# Altium schematic symbol library RK3308SCH.SCHLIB: 31 symbols
Pins are listed as number, name and electrical type; pins without a type are passive.

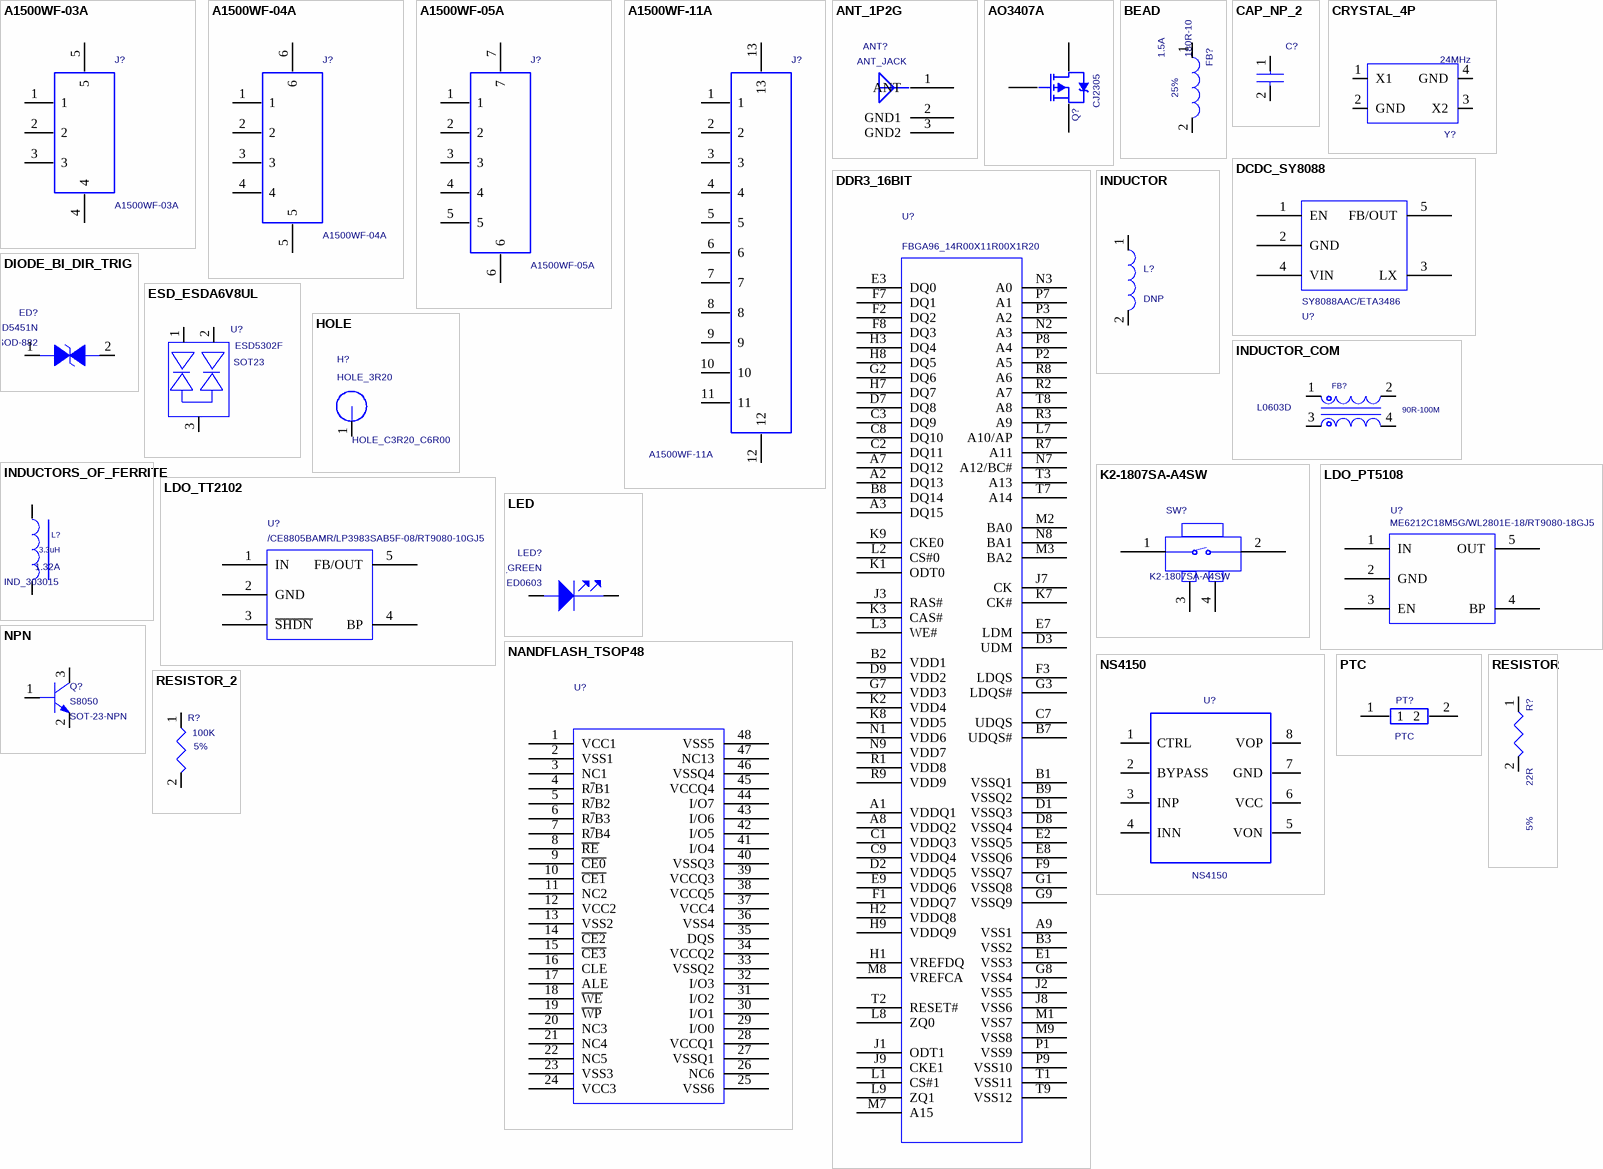
[diagram p0: symbols A1500WF-03A to RESISTOR_2]

## A1500WF-03A
designator J?
ZH1.5卧贴针座3PIN; Manufacturer_PN: HZ1515103N5200; PCB DECAL: ZH1.5-3P; Number: 1
footprint ZH1.5-3P
pins: 1, 2, 3, 4, 5

## A1500WF-04A
designator J?
ZH1.5卧贴针座4PIN; Manufacturer_PN: HZ1515104N5200; Number: 1; PCB DECAL: ZH1.5-4P
footprint ZH1.5-4P
pins: 1, 2, 3, 4, 5, 6

## A1500WF-05A
designator J?
ZH1.5卧贴针座5PIN; Manufacturer_PN: HZ1515105N5200; Manufacturer: 浩智创; PCB DECAL: ZH1.5-5P; Number: 1
footprint ZH1.5-5P
pins: 1, 2, 3, 4, 5, 6, 7

## A1500WF-11A
designator J?
ZH1.5卧贴针座11PIN; Manufacturer_PN: HZ1515111N5200; Manufacturer: 浩智创; PCB DECAL: ZH1.5-11P; Number: 1
footprint ZH1.5-11P
pins: 1, 2, 3, 4, 5, 6, 7, 8, 9, 10, 11, 12, 13

## ANT_1P2G
designator ANT?  PCB DECAL: ANT_JACK  (hidden comment: ANT_1P2G)
焊接式WIFI天线座，单频; Manufacturer_PN: KH-IPEX-K501-29; Part_Type: ANT; Created_by: JJJ; Priority: A; Source_Path: Z:\RK_STANDARD_LIBRARY\CADENCE_CIS\RK_DISCRETE.OLB; Value: ANT_JACK; Number: 1; RK_PN: ANT_JACK
footprint ANT_JACK
pins: 1 ANT, 2 GND1, 3 GND2

## AO3407A
designator Q?  value CJ2305
CJ2305; number: 1; PCB DECAL: SOT23; Comment_1: AO3407A; Manufacturer_PN: CJ2305
footprint SOT23
pins: 1 G, 2 S, 3 D

## BEAD
designator FB?  value 180R-100M  Tolerance: 25%  Irms: 1.5A  (hidden comment: BEAD)
Ferrite Bead,180R-100M,0.25,L0603; Manufacturer: Murata; RK_PN: BLM18PG181SN1; Priority: A; DC_Resistor: 0.09ohm; Created_by: YTL; Source_Path: Z:\RK_STANDARD_LIBRARY\CADENCE_CIS\RK_DISCRETE.OLB; PCB DECAL: L0603; Part_Type: BEAD; Manufacturer_PN: BLM18PG181SN1
footprint L0603
pins: 1, 2

## CAP_NP_2
designator C?  (value not drawn)
cap,100.00nF,+/-10%,16V,X5R,C0402; Manufacturer: TDK; RK_PN: C1005X5R1C104K050BA; Priority: A; Tolerance: 10%; Created_by: JJJ; Source_Path: Z:\RK_STANDARD_LIBRARY\CADENCE_CIS\RK_DISCRETE.OLB; Number: 1; Part_Type: C0402; Manufacturer_PN: C1005X5R1C104K050BA
footprint C0402
pins: 1, 2

## CRYSTAL_4P
designator Y?  value 24MHz  (hidden comment: CRYSTAL_4P)
无源晶振，24M，3225,±10ppm，12pF，Hosonic; Manufacturer: Hosonic(鸿星电子); PCB DECAL: CRY4_3R20X2R50X0R80; RK_PN: E3SB24.0000F12E11; Priority: A; Created_by: JJJ; Source_Path: Z:\RK_STANDARD_LIBRARY\CADENCE_CIS\RK_DISCRETE.OLB; Number: 1; Part_Type: CRYSTAL; Manufacturer_PN: E3SB24.0000F12E11
footprint CRY4_3R20X2R50X0R80
pins: 1 X1, 2 GND (power), 3 X2, 4 GND (power)

## DCDC_SY8088
designator U?  value SY8088AAC/ETA3486  (hidden comment: DCDC_SY8088)
SY8088AAC; Part_Type: DCDC; Manufacturer: Silergy(矽力杰）; PCB DECAL: SOT_23_5; Created_by: JJJ; Priority: A; Source_Path: Z:\RK_STANDARD_LIBRARY\CADENCE_CIS\RK_IC.OLB; Number: 1; Manufacturer_PN: SY8088AAC; RK_PN: SY8088AAC
footprint SOT_23_5
pins: 1 EN, 2 GND, 3 LX, 4 VIN, 5 FB/OUT

## DDR3_16BIT
designator U?  PCB DECAL: FBGA96_14R00X11R00X1R20  (hidden comment: DDR3_16BIT)
2Gb; Part_Type: DRAM; Manufacturer: ESMT; Manufacturer_PN: M15T2G16128A-DEBG2L; RK_PN: DDR3; Priority: A; Created_by: JJJ; Source_Path: Z:\RK_STANDARD_LIBRARY\CADENCE_CIS\RK_IC.OLB; Number: 1
footprint FBGA96_14R00X11R00X1R20
pins: A1 VDDQ1, A2 DQ13, A3 DQ15, A7 DQ12, A8 VDDQ2, A9 VSS1, B1 VSSQ1, B2 VDD1, B3 VSS2, B7 UDQS#, B8 DQ14, B9 VSSQ2, C1 VDDQ3, C2 DQ11, C3 DQ9, C7 UDQS, C8 DQ10, C9 VDDQ4, D1 VSSQ3, D2 VDDQ5, D3 UDM, D7 DQ8, D8 VSSQ4, D9 VDD2, E1 VSS3, E2 VSSQ5, E3 DQ0, E7 LDM, E8 VSSQ6, E9 VDDQ6, F1 VDDQ7, F2 DQ2, F3 LDQS, F7 DQ1, F8 DQ3, F9 VSSQ7, G1 VSSQ8, G2 DQ6, G3 LDQS#, G7 VDD3, G8 VSS4, G9 VSSQ9, H1 VREFDQ, H2 VDDQ8, H3 DQ4, H7 DQ7, H8 DQ5, H9 VDDQ9, J1 ODT1, J2 VSS5, J3 RAS#, J7 CK, J8 VSS6, J9 CKE1, K1 ODT0, K2 VDD4, K3 CAS#, K7 CK#, K8 VDD5, K9 CKE0, L1 CS#1, L2 CS#0, L3 WE#, L7 A10/AP, L8 ZQ0, L9 ZQ1, M1 VSS7, M2 BA0, M3 BA2, M7 A15, M8 VREFCA, M9 VSS8, N1 VDD6, N2 A3, N3 A0, N7 A12/BC#, N8 BA1, N9 VDD7, P1 VSS9, P2 A5, P3 A2, P7 A1, P8 A4, P9 VSS10, R1 VDD8, R2 A7, R3 A9, R7 A11, R8 A6, R9 VDD9, T1 VSS11, T2 RESET#, T3 A13, T7 A14, T8 A8, T9 VSS12

## DIODE_BI_DIR_TRIG
designator ED?  value ESD5451N  PCB DECAL: SOD-882  (hidden comment: DIODE_BI_DIR_TRIG)
1-Line, Bi-directional, Transient Voltage Suppressors.17.5pF.; Part_Type: ESD_TVS; Manufacturer: WillSemi(韦尔半导体); Priority: A; Created_by: JJJ; Source_Path: Z:\RK_STANDARD_LIBRARY\CADENCE_CIS\RK_DISCRETE.OLB; Number: 1; RK_PN: ESD5451N; Manufacturer_PN: ESD5451N
footprint SOD-882
pins: 1, 2

## ESD_ESDA6V8UL
designator U?  value ESD5302F  PCB DECAL: SOT23  (hidden comment: ESD_ESDA6V8UL)
2-Lines, Uni-directional,Ultra-low Capacitance.Transient Voltage Suppressors; Manufacturer: WillSemi(韦尔半导体); Part_Type: ESD_TVS; Created_by: JJJ; Priority: A; Source_Path: Z:\RK_STANDARD_LIBRARY\CADENCE_CIS\RK_IC.OLB; Geometry.Height: 43.31mil; Number: 1; Manufacturer_PN: ESD5302F; RK_PN: ESD5302F
footprint SOT23
pins: 1, 2, 3

## HOLE
designator H?  value HOLE_3R20  PCB DECAL: HOLE_C3R20_C6R00  (hidden comment: HOLE)
直径3.2mm螺丝孔,无铜柱; Created_by: YWQ; Priority: A; Source_Path: Z:\RK_STANDARD_LIBRARY\CADENCE_CIS\RK_DISCRETE.OLB; Number: 1; Option: DNP; Part_Type: HOLE; RK_PN: HOLE_3R20
footprint HOLE_C3R20_C6R00
pins: 1

## INDUCTOR
designator L?  value DNP  (hidden comment: INDUCTOR)
Did Not Place.; Part_Type: IND; PCB DECAL: L0402; Created_by: JJJ; Priority: A; RK_PN: DNPL0402; Source_Path: Z:\RK_STANDARD_LIBRARY\CADENCE_CIS\RK_DISCRETE.OLB; Number: 1; Option: DNP
footprint L0402
pins: 1, 2

## INDUCTOR_COM
designator FB?  value 90R-100M  PCB DECAL: L0603D  (hidden comment: INDUCTOR_COM)
Winding Type Common Mode Choke Coil; Part_Type: BEAD; Manufacturer: sunlord; RK_PN: SDCW2012-2-900TF; Priority: A; DC_Resistor: 0.35ohm; Tolerance: 25%; Irms: 330mA; Resonace_frequency: 90R@100M; Created_by: JJJ; Option: DNP; Source_Path: Z:\RK_STANDARD_LIBRARY\CADENCE_CIS\RK_DISCRETE.OLB; Manufacturer_PN: SDCW2012-2-900TF
footprint L0603D
pins: 1, 2, 3, 4

## INDUCTORS_OF_FERRITE
designator L?  value 3.3uH  PCB DECAL: IND_303015  Isat: 1.32A  (hidden comment: INDUCTORS_OF_FERRITE)
Power Inductor,3.3uH,0.2,IND_303015; Manufacturer_PN: SWPA3015S3R3MT; Manufacturer: sunlord; Part_Type: POWER_IND; Created_by: YTL; Resonace_frequency: 96M; Irms: 1.36A; Tolerance: 20%; DC_Resistor: 0.04ohm; Priority: A; Source_Path: Z:\RK_STANDARD_LIBRARY\CADENCE_CIS\RK_DISCRETE.OLB; RK_PN: SWPA3015S3R3MT
footprint IND_303015
pins: 1, 2

## K2-1807SA-A4SW
designator SW?
Part_Type: SWITCH; Manufacturer: HRO; Remark: 连接器; Number: 1; PCB DECAL: K2-1807SA; Manufacturer_PN: K2-1807SA-A4SW; Value: K2-1807SA-A4SW
footprint K2-1807SA
pins: 1, 2, 3, 4

## LDO_PT5108
designator U?  value ME6212C18M5G/WL2801E-18/RT9080-18GJ5  (hidden comment: LDO_PT5108)
High-PSRR 600mA LDO.Output1.8V.; Part_Type: LDO; Manufacturer: Powtech(华润矽威）; PCB DECAL: SOT_23_5; RK_PN: ME6212C18M5G; Priority: A; Created_by: JJJ; Source_Path: Z:\RK_STANDARD_LIBRARY\CADENCE_CIS\RK_IC.OLB; Number: 1; Manufacturer_PN: ME6212C18M5G
footprint SOT_23_5
pins: 1 IN, 2 GND, 3 EN, 4 BP, 5 OUT

## LDO_TT2102
designator U?  value /CE8805BAMR/LP3983SAB5F-08/RT9080-10GJ5  (hidden comment: LDO_TT2102)
LDO,1.5V to 6V input,600mA adj out; Manufacturer_PN: LM8805SF5-ADJ; PCB DECAL: SOT_23_5; Created_by: JJJ; Priority: A; RK_PN: TT2102; Source_Path: Z:\RK_STANDARD_LIBRARY\CADENCE_CIS\RK_IC.OLB; Number: 1; Part_Type: LDO
footprint SOT_23_5
pins: 1 IN, 2 GND, 3 ~{SHDN}, 4 BP, 5 FB/OUT

## LED
designator LED?  value LED_GREEN  PCB DECAL: LED0603  (hidden comment: LED)
贴片LED灯，0603，绿色; Created_by: JJJ; Priority: A; Source_Path: Z:\RK_STANDARD_LIBRARY\CADENCE_CIS\RK_DISCRETE.OLB; Part_Type: LED; RK_PN: LED_GREEN
footprint LED0603
pins: 1 ANODE, 2 CATHODE

## NANDFLASH_TSOP48
designator U?  (value not drawn)
1Gb; Manufacturer_PN: F59L1G81LB -25TG2M; Manufacturer: ESMT; Part_Type: NAND_FLASH; Created_by: JJJ; Priority: A; PCB DECAL: TSOP48_12X20; Source_Path: Z:\RK_STANDARD_LIBRARY\CADENCE_CIS\RK_IC.OLB; Number: 1; RK_PN: NAND_FLASH
footprint TSOP48_12X20
pins: 1 VCC1, 2 VSS1, 3 NC1, 4 R~{/}B1, 5 R~{/}B2, 6 R~{/}B3, 7 R~{/}B4, 8 ~{RE}, 9 ~{CE0}, 10 ~{CE1}, 11 NC2, 12 VCC2, 13 VSS2, 14 ~{CE2}, 15 ~{CE3}, 16 CLE, 17 ALE, 18 ~{WE}, 19 ~{WP}, 20 NC3, 21 NC4, 22 NC5, 23 VSS3, 24 VCC3, 25 VSS6, 26 NC6, 27 VSSQ1, 28 VCCQ1, 29 I/O0, 30 I/O1, 31 I/O2, 32 I/O3, 33 VSSQ2, 34 VCCQ2, 35 DQS, 36 VSS4, 37 VCC4, 38 VCCQ5, 39 VCCQ3, 40 VSSQ3, 41 I/O4, 42 I/O5, 43 I/O6, 44 I/O7, 45 VCCQ4, 46 VSSQ4, 47 NC13, 48 VSS5

## NPN
designator Q?  value S8050  PCB DECAL: SOT-23-NPN  (hidden comment: NPN)
S8050,SOT23; Manufacturer: 长电; Manufacturer_PN: S8050_SOT23; Priority: A; Ic: 0.5A; Vceo: 25V; Pc: 0.3W; Created_by: JJJ; Source_Path: Z:\RK_STANDARD_LIBRARY\CADENCE_CIS\RK_DISCRETE.OLB; Number: 1; Geometry.Height: 1.100mm; RK_PN: S8050; Part_Type: NPN
footprint SOT-23-NPN
pins: 1 BASE, 2 EMITTER, 3 COLLECTOR

## NS4150
designator U?
Manufacturer: NSIWAY; PCB Footprint: SOP8; PCB DECAL: SOP-8; Number: 1; value: NS4150; Manufacturer_PN: NS4150
footprint SOP-8
pins: 1 CTRL, 2 BYPASS, 3 INP, 4 INN, 5 VON, 6 VCC, 7 GND, 8 VOP

## PTC
designator PT?
PCB DECAL: SMD1812
footprint SMD1812
pins: 1, 2

## RESISTOR
designator R?  value 22R  Tolerance: 5%  (hidden comment: RESISTOR)
?用厚膜电阻,22R,+/-5%,R0402,1/16W.; Manufacturer_PN: RC0402JR-0722RL; Manufacturer: YAGEO; Created_by: YTL; Wattage: 1/16W; Priority: A; Source_Path: Z:\RK_STANDARD_LIBRARY\CADENCE_CIS\RK_DISCRETE.OLB; number: 1; PCB DECAL: R0402; Part_Type: ?用厚膜电阻; RK_PN: RC0402JR-0722RL
footprint R0402
pins: 1, 2

## RESISTOR_2
designator R?  value 100K  Tolerance: 5%  (hidden comment: RESISTOR_2)
?用厚膜电阻,100K,+/-5%,R0402,1/16W.; Manufacturer_PN: RC0402JR-07100KL; Manufacturer: YAGEO; Created_by: YTL; Wattage: 1/16W; Priority: A; Source_Path: E:\PCB LIB\ORCAD\RK_ORCAD_LIB.OLB; Part_Type: ?用厚膜电阻; RK_PN: RC0402JR-07100KL; PCB DECAL: R0402
footprint R0402
pins: 1, 2

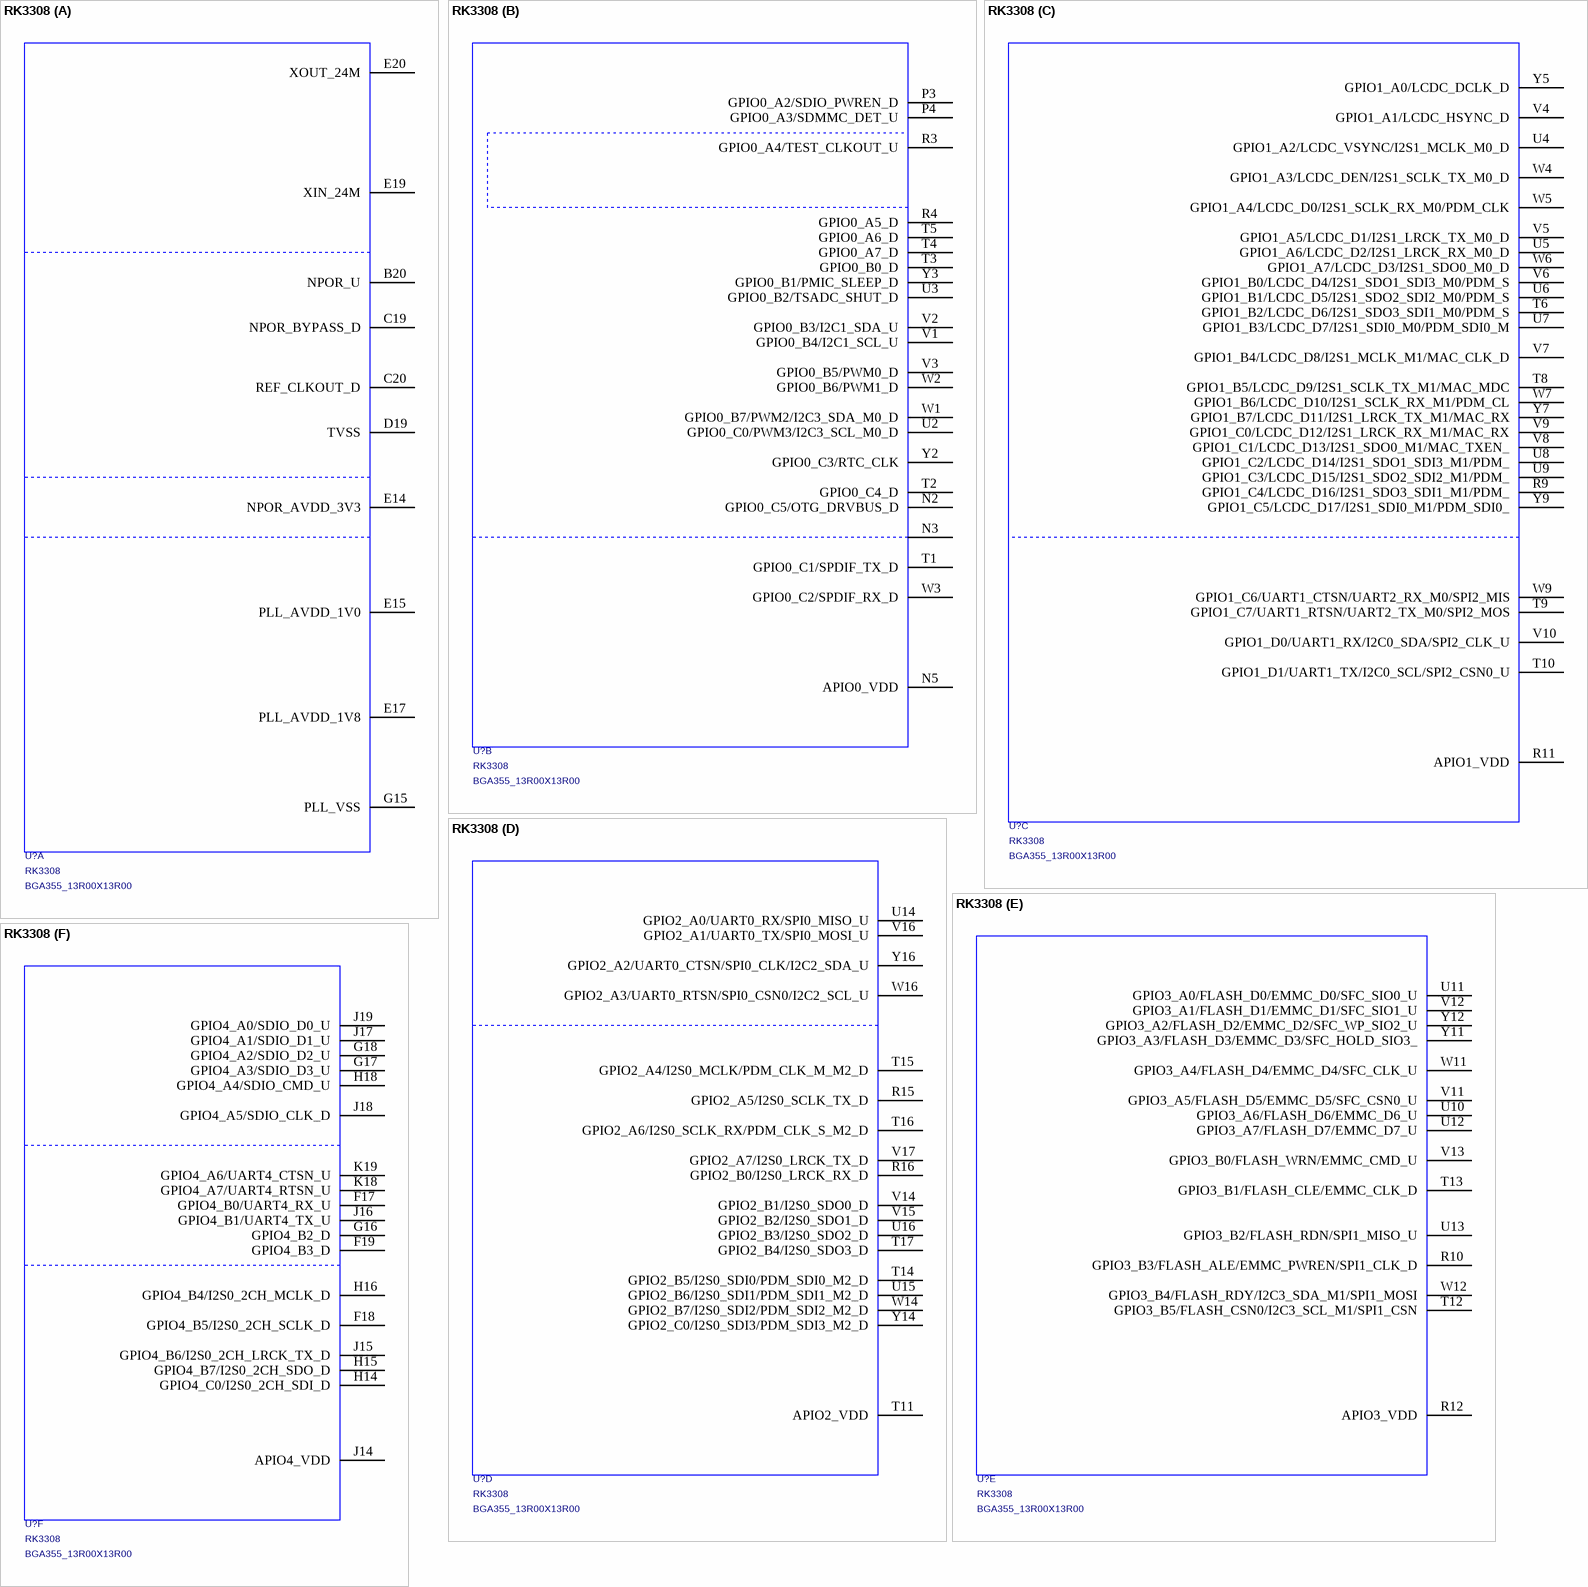
[diagram p1: symbol RK3308]

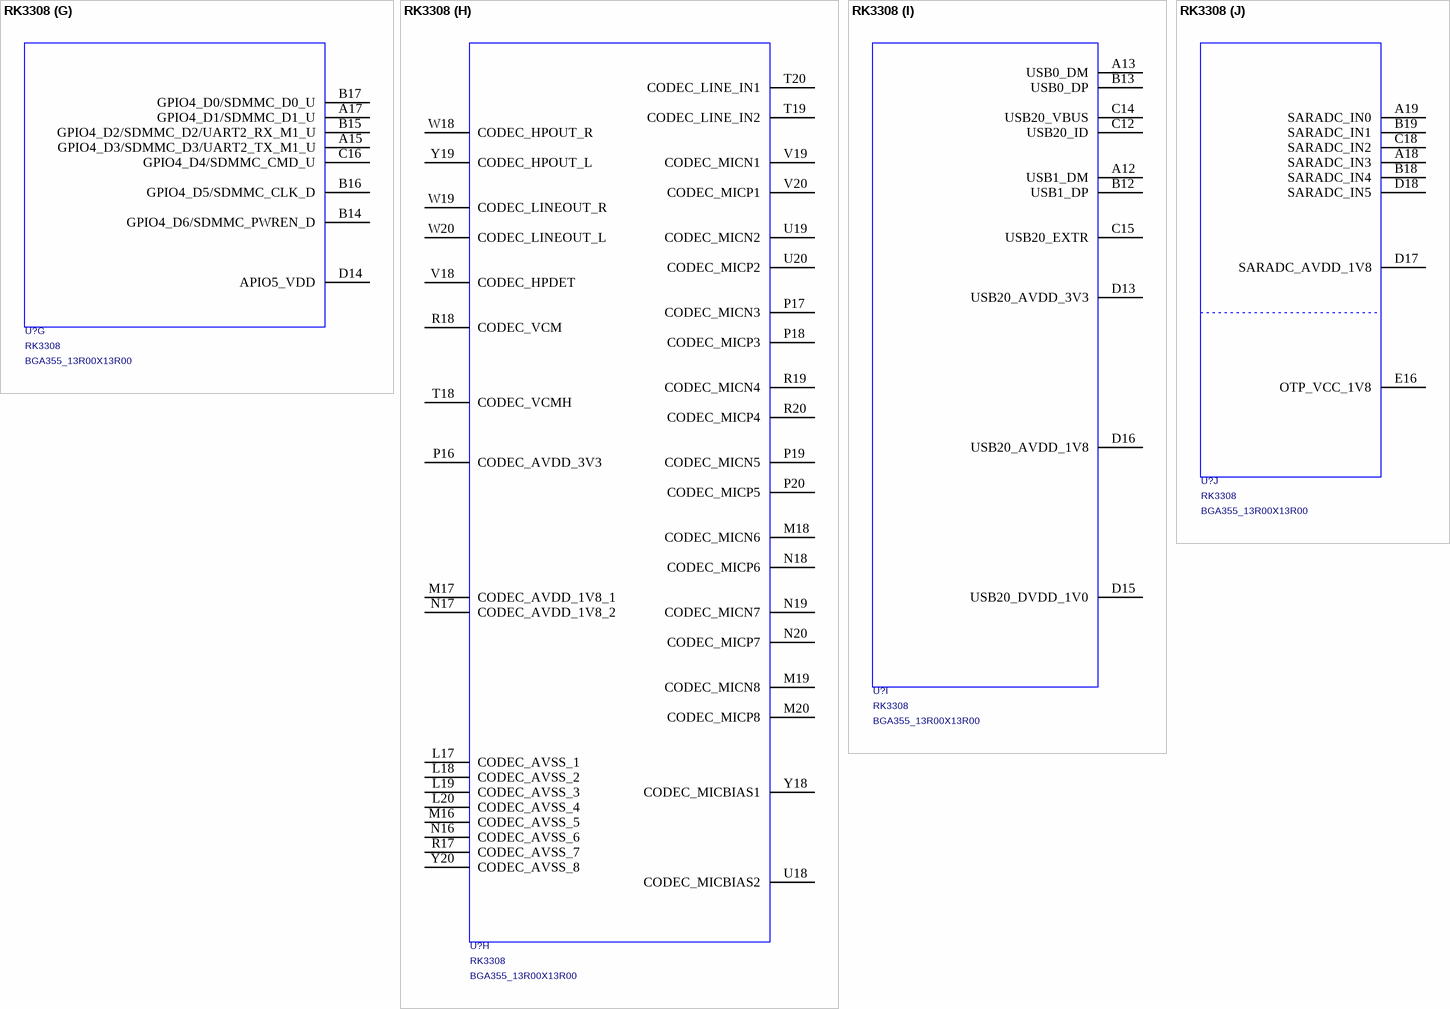
[diagram p2: symbol RK3308]

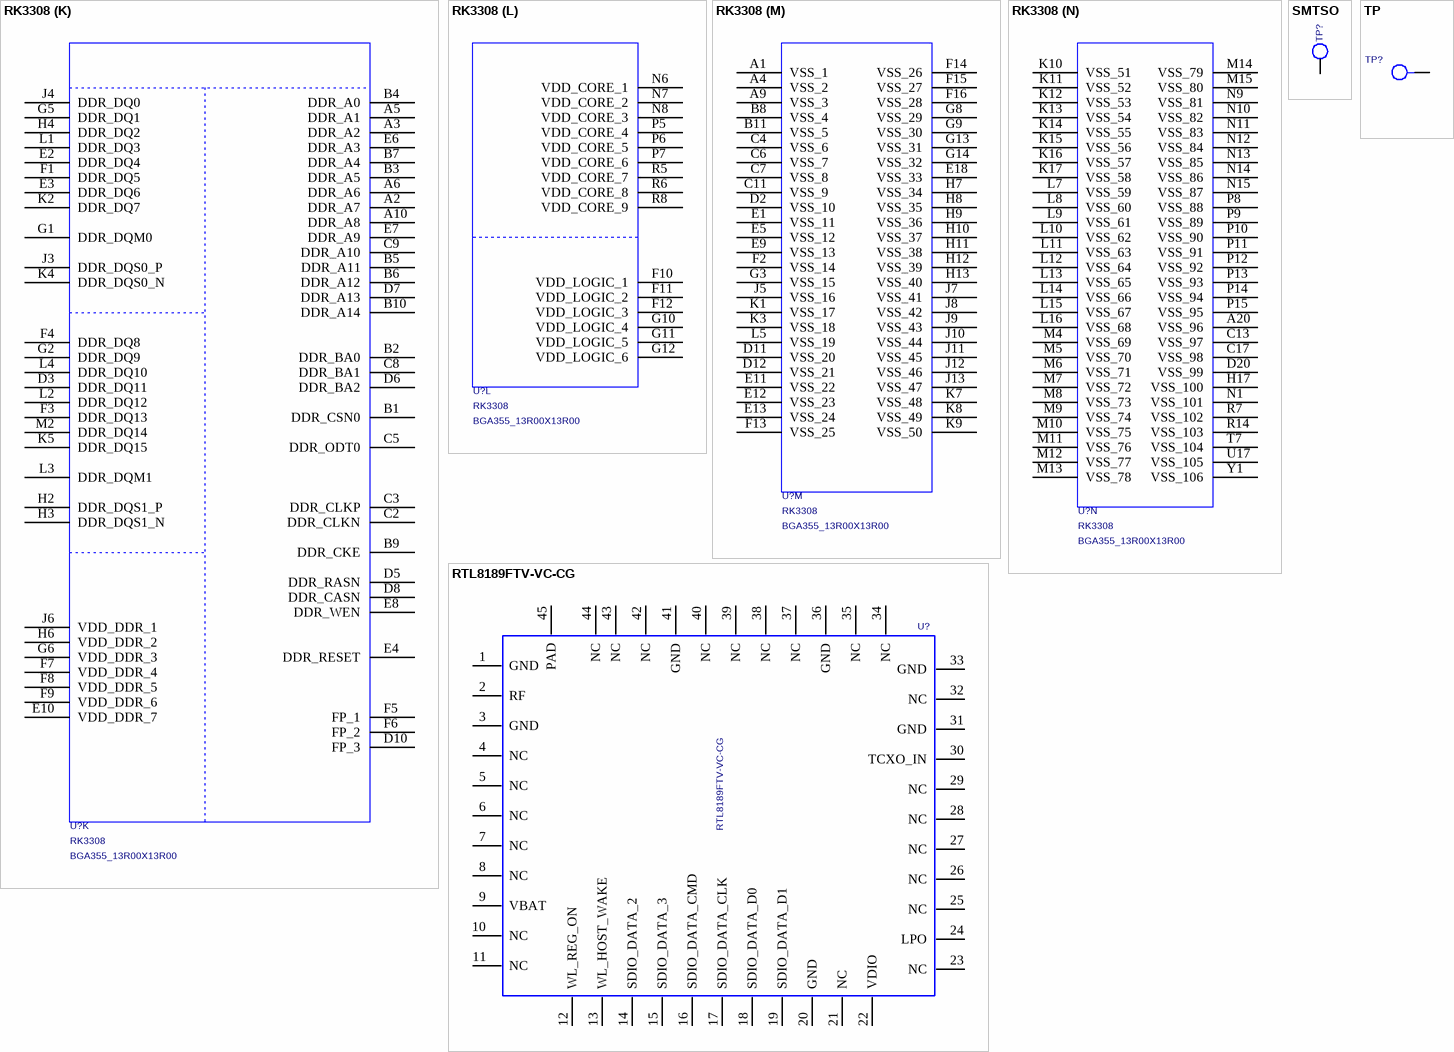
[diagram p3: symbols RK3308 to TP]

## RK3308
designator U?  PCB DECAL: BGA355_13R00X13R00  (hidden comment: RK3308)
Manufacturer: ROCKCHIP; Source_Path: E:\SCHEMETIC\RKSCH.OLB; Number: 1; Manufacturer_PN: RK3308; Value: RK3308
footprint BGA355_13R00X13R00
part A pins: B20 NPOR_U, C19 NPOR_BYPASS_D, C20 REF_CLKOUT_D, D19 TVSS, E14 NPOR_AVDD_3V3, E15 PLL_AVDD_1V0, E17 PLL_AVDD_1V8, E19 XIN_24M, E20 XOUT_24M, G15 PLL_VSS
part B pins: N2 GPIO0_C5/OTG_DRVBUS_D, N3, N5 APIO0_VDD, P3 GPIO0_A2/SDIO_PWREN_D, P4 GPIO0_A3/SDMMC_DET_U, R3 GPIO0_A4/TEST_CLKOUT_U, R4 GPIO0_A5_D, T1 GPIO0_C1/SPDIF_TX_D, T2 GPIO0_C4_D, T3 GPIO0_B0_D, T4 GPIO0_A7_D, T5 GPIO0_A6_D, U2 GPIO0_C0/PWM3/I2C3_SCL_M0_D, U3 GPIO0_B2/TSADC_SHUT_D, V1 GPIO0_B4/I2C1_SCL_U, V2 GPIO0_B3/I2C1_SDA_U, V3 GPIO0_B5/PWM0_D, W1 GPIO0_B7/PWM2/I2C3_SDA_M0_D, W2 GPIO0_B6/PWM1_D, W3 GPIO0_C2/SPDIF_RX_D, Y2 GPIO0_C3/RTC_CLK, Y3 GPIO0_B1/PMIC_SLEEP_D
part C pins: R9 GPIO1_C4/LCDC_D16/I2S1_SDO3_SDI1_M1/PDM_, R11 APIO1_VDD, T6 GPIO1_B2/LCDC_D6/I2S1_SDO3_SDI1_M0/PDM_S, T8 GPIO1_B5/LCDC_D9/I2S1_SCLK_TX_M1/MAC_MDC, T9 GPIO1_C7/UART1_RTSN/UART2_TX_M0/SPI2_MOS, T10 GPIO1_D1/UART1_TX/I2C0_SCL/SPI2_CSN0_U, U4 GPIO1_A2/LCDC_VSYNC/I2S1_MCLK_M0_D, U5 GPIO1_A6/LCDC_D2/I2S1_LRCK_RX_M0_D, U6 GPIO1_B1/LCDC_D5/I2S1_SDO2_SDI2_M0/PDM_S, U7 GPIO1_B3/LCDC_D7/I2S1_SDI0_M0/PDM_SDI0_M, U8 GPIO1_C2/LCDC_D14/I2S1_SDO1_SDI3_M1/PDM_, U9 GPIO1_C3/LCDC_D15/I2S1_SDO2_SDI2_M1/PDM_, V4 GPIO1_A1/LCDC_HSYNC_D, V5 GPIO1_A5/LCDC_D1/I2S1_LRCK_TX_M0_D, V6 GPIO1_B0/LCDC_D4/I2S1_SDO1_SDI3_M0/PDM_S, V7 GPIO1_B4/LCDC_D8/I2S1_MCLK_M1/MAC_CLK_D, V8 GPIO1_C1/LCDC_D13/I2S1_SDO0_M1/MAC_TXEN_, V9 GPIO1_C0/LCDC_D12/I2S1_LRCK_RX_M1/MAC_RX, V10 GPIO1_D0/UART1_RX/I2C0_SDA/SPI2_CLK_U, W4 GPIO1_A3/LCDC_DEN/I2S1_SCLK_TX_M0_D, W5 GPIO1_A4/LCDC_D0/I2S1_SCLK_RX_M0/PDM_CLK, W6 GPIO1_A7/LCDC_D3/I2S1_SDO0_M0_D, W7 GPIO1_B6/LCDC_D10/I2S1_SCLK_RX_M1/PDM_CL, W9 GPIO1_C6/UART1_CTSN/UART2_RX_M0/SPI2_MIS, Y5 GPIO1_A0/LCDC_DCLK_D, Y7 GPIO1_B7/LCDC_D11/I2S1_LRCK_TX_M1/MAC_RX, Y9 GPIO1_C5/LCDC_D17/I2S1_SDI0_M1/PDM_SDI0_
part D pins: R15 GPIO2_A5/I2S0_SCLK_TX_D, R16 GPIO2_B0/I2S0_LRCK_RX_D, T11 APIO2_VDD, T14 GPIO2_B5/I2S0_SDI0/PDM_SDI0_M2_D, T15 GPIO2_A4/I2S0_MCLK/PDM_CLK_M_M2_D, T16 GPIO2_A6/I2S0_SCLK_RX/PDM_CLK_S_M2_D, T17 GPIO2_B4/I2S0_SDO3_D, U14 GPIO2_A0/UART0_RX/SPI0_MISO_U, U15 GPIO2_B6/I2S0_SDI1/PDM_SDI1_M2_D, U16 GPIO2_B3/I2S0_SDO2_D, V14 GPIO2_B1/I2S0_SDO0_D, V15 GPIO2_B2/I2S0_SDO1_D, V16 GPIO2_A1/UART0_TX/SPI0_MOSI_U, V17 GPIO2_A7/I2S0_LRCK_TX_D, W14 GPIO2_B7/I2S0_SDI2/PDM_SDI2_M2_D, W16 GPIO2_A3/UART0_RTSN/SPI0_CSN0/I2C2_SCL_U, Y14 GPIO2_C0/I2S0_SDI3/PDM_SDI3_M2_D, Y16 GPIO2_A2/UART0_CTSN/SPI0_CLK/I2C2_SDA_U
part E pins: R10 GPIO3_B3/FLASH_ALE/EMMC_PWREN/SPI1_CLK_D, R12 APIO3_VDD, T12 GPIO3_B5/FLASH_CSN0/I2C3_SCL_M1/SPI1_CSN, T13 GPIO3_B1/FLASH_CLE/EMMC_CLK_D, U10 GPIO3_A6/FLASH_D6/EMMC_D6_U, U11 GPIO3_A0/FLASH_D0/EMMC_D0/SFC_SIO0_U, U12 GPIO3_A7/FLASH_D7/EMMC_D7_U, U13 GPIO3_B2/FLASH_RDN/SPI1_MISO_U, V11 GPIO3_A5/FLASH_D5/EMMC_D5/SFC_CSN0_U, V12 GPIO3_A1/FLASH_D1/EMMC_D1/SFC_SIO1_U, V13 GPIO3_B0/FLASH_WRN/EMMC_CMD_U, W11 GPIO3_A4/FLASH_D4/EMMC_D4/SFC_CLK_U, W12 GPIO3_B4/FLASH_RDY/I2C3_SDA_M1/SPI1_MOSI, Y11 GPIO3_A3/FLASH_D3/EMMC_D3/SFC_HOLD_SIO3_, Y12 GPIO3_A2/FLASH_D2/EMMC_D2/SFC_WP_SIO2_U
part F pins: F17 GPIO4_B0/UART4_RX_U, F18 GPIO4_B5/I2S0_2CH_SCLK_D, F19 GPIO4_B3_D, G16 GPIO4_B2_D, G17 GPIO4_A3/SDIO_D3_U, G18 GPIO4_A2/SDIO_D2_U, H14 GPIO4_C0/I2S0_2CH_SDI_D, H15 GPIO4_B7/I2S0_2CH_SDO_D, H16 GPIO4_B4/I2S0_2CH_MCLK_D, H18 GPIO4_A4/SDIO_CMD_U, J14 APIO4_VDD, J15 GPIO4_B6/I2S0_2CH_LRCK_TX_D, J16 GPIO4_B1/UART4_TX_U, J17 GPIO4_A1/SDIO_D1_U, J18 GPIO4_A5/SDIO_CLK_D, J19 GPIO4_A0/SDIO_D0_U, K18 GPIO4_A7/UART4_RTSN_U, K19 GPIO4_A6/UART4_CTSN_U
part G pins: A15 GPIO4_D3/SDMMC_D3/UART2_TX_M1_U, A17 GPIO4_D1/SDMMC_D1_U, B14 GPIO4_D6/SDMMC_PWREN_D, B15 GPIO4_D2/SDMMC_D2/UART2_RX_M1_U, B16 GPIO4_D5/SDMMC_CLK_D, B17 GPIO4_D0/SDMMC_D0_U, C16 GPIO4_D4/SDMMC_CMD_U, D14 APIO5_VDD
part H pins: L17 CODEC_AVSS_1, L18 CODEC_AVSS_2, L19 CODEC_AVSS_3, L20 CODEC_AVSS_4, M16 CODEC_AVSS_5, M17 CODEC_AVDD_1V8_1, M18 CODEC_MICN6, M19 CODEC_MICN8, M20 CODEC_MICP8, N16 CODEC_AVSS_6, N17 CODEC_AVDD_1V8_2, N18 CODEC_MICP6, N19 CODEC_MICN7, N20 CODEC_MICP7, P16 CODEC_AVDD_3V3, P17 CODEC_MICN3, P18 CODEC_MICP3, P19 CODEC_MICN5, P20 CODEC_MICP5, R17 CODEC_AVSS_7, R18 CODEC_VCM, R19 CODEC_MICN4, R20 CODEC_MICP4, T18 CODEC_VCMH, T19 CODEC_LINE_IN2, T20 CODEC_LINE_IN1, U18 CODEC_MICBIAS2, U19 CODEC_MICN2, U20 CODEC_MICP2, V18 CODEC_HPDET, V19 CODEC_MICN1, V20 CODEC_MICP1, W18 CODEC_HPOUT_R, W19 CODEC_LINEOUT_R, W20 CODEC_LINEOUT_L, Y18 CODEC_MICBIAS1, Y19 CODEC_HPOUT_L, Y20 CODEC_AVSS_8
part I pins: A12 USB1_DM, A13 USB0_DM, B12 USB1_DP, B13 USB0_DP, C12 USB20_ID, C14 USB20_VBUS, C15 USB20_EXTR, D13 USB20_AVDD_3V3, D15 USB20_DVDD_1V0, D16 USB20_AVDD_1V8
part J pins: A18 SARADC_IN3, A19 SARADC_IN0, B18 SARADC_IN4, B19 SARADC_IN1, C18 SARADC_IN2, D17 SARADC_AVDD_1V8, D18 SARADC_IN5, E16 OTP_VCC_1V8
part K pins: A2 DDR_A7, A3 DDR_A2, A5 DDR_A1, A6 DDR_A6, A10 DDR_A8, B1 DDR_CSN0, B2 DDR_BA0, B3 DDR_A5, B4 DDR_A0, B5 DDR_A11, B6 DDR_A12, B7 DDR_A4, B9 DDR_CKE, B10 DDR_A14, C2 DDR_CLKN, C3 DDR_CLKP, C5 DDR_ODT0, C8 DDR_BA1, C9 DDR_A10, D3 DDR_DQ11, D5 DDR_RASN, D6 DDR_BA2, D7 DDR_A13, D8 DDR_CASN, D10 FP_3, E2 DDR_DQ4, E3 DDR_DQ6, E4 DDR_RESET, E6 DDR_A3, E7 DDR_A9, E8 DDR_WEN, E10 VDD_DDR_7 (power), F1 DDR_DQ5, F3 DDR_DQ13, F4 DDR_DQ8, F5 FP_1, F6 FP_2, F7 VDD_DDR_4 (power), F8 VDD_DDR_5 (power), F9 VDD_DDR_6 (power), G1 DDR_DQM0, G2 DDR_DQ9, G5 DDR_DQ1, G6 VDD_DDR_3 (power), H2 DDR_DQS1_P, H3 DDR_DQS1_N, H4 DDR_DQ2, H6 VDD_DDR_2 (power), J3 DDR_DQS0_P, J4 DDR_DQ0, J6 VDD_DDR_1 (power), K2 DDR_DQ7, K4 DDR_DQS0_N, K5 DDR_DQ15, L1 DDR_DQ3, L2 DDR_DQ12, L3 DDR_DQM1, L4 DDR_DQ10, M2 DDR_DQ14
part L pins: F10 VDD_LOGIC_1 (power), F11 VDD_LOGIC_2 (power), F12 VDD_LOGIC_3 (power), G10 VDD_LOGIC_4 (power), G11 VDD_LOGIC_5 (power), G12 VDD_LOGIC_6 (power), N6 VDD_CORE_1 (power), N7 VDD_CORE_2 (power), N8 VDD_CORE_3 (power), P5 VDD_CORE_4 (power), P6 VDD_CORE_5 (power), P7 VDD_CORE_6 (power), R5 VDD_CORE_7 (power), R6 VDD_CORE_8 (power), R8 VDD_CORE_9 (power)
part M pins: A1 VSS_1 (power), A4 VSS_2 (power), A9 VSS_3 (power), B8 VSS_4 (power), B11 VSS_5 (power), C4 VSS_6 (power), C6 VSS_7 (power), C7 VSS_8 (power), C11 VSS_9 (power), D2 VSS_10 (power), D11 VSS_20 (power), D12 VSS_21 (power), E1 VSS_11 (power), E5 VSS_12 (power), E9 VSS_13 (power), E11 VSS_22 (power), E12 VSS_23 (power), E13 VSS_24 (power), E18 VSS_33 (power), F2 VSS_14 (power), F13 VSS_25 (power), F14 VSS_26 (power), F15 VSS_27 (power), F16 VSS_28 (power), G3 VSS_15 (power), G8 VSS_29 (power), G9 VSS_30 (power), G13 VSS_31 (power), G14 VSS_32 (power), H7 VSS_34 (power), H8 VSS_35 (power), H9 VSS_36 (power), H10 VSS_37 (power), H11 VSS_38 (power), H12 VSS_39 (power), H13 VSS_40 (power), J5 VSS_16 (power), J7 VSS_41 (power), J8 VSS_42 (power), J9 VSS_43 (power), J10 VSS_44 (power), J11 VSS_45 (power), J12 VSS_46 (power), J13 VSS_47 (power), K1 VSS_17 (power), K3 VSS_18 (power), K7 VSS_48 (power), K8 VSS_49 (power), K9 VSS_50 (power), L5 VSS_19 (power)
part N pins: A20 VSS_96 (power), C13 VSS_97 (power), C17 VSS_98 (power), D20 VSS_99 (power), H17 VSS_100 (power), K10 VSS_51 (power), K11 VSS_52 (power), K12 VSS_53 (power), K13 VSS_54 (power), K14 VSS_55 (power), K15 VSS_56 (power), K16 VSS_57 (power), K17 VSS_58 (power), L7 VSS_59 (power), L8 VSS_60 (power), L9 VSS_61 (power), L10 VSS_62 (power), L11 VSS_63 (power), L12 VSS_64 (power), L13 VSS_65 (power), L14 VSS_66 (power), L15 VSS_67 (power), L16 VSS_68 (power), M4 VSS_69 (power), M5 VSS_70 (power), M6 VSS_71 (power), M7 VSS_72 (power), M8 VSS_73 (power), M9 VSS_74 (power), M10 VSS_75 (power), M11 VSS_76 (power), M12 VSS_77 (power), M13 VSS_78 (power), M14 VSS_79 (power), M15 VSS_80 (power), N1 VSS_101 (power), N9 VSS_81 (power), N10 VSS_82 (power), N11 VSS_83 (power), N12 VSS_84 (power), N13 VSS_85 (power), N14 VSS_86 (power), N15 VSS_87 (power), P8 VSS_88 (power), P9 VSS_89 (power), P10 VSS_90 (power), P11 VSS_91 (power), P12 VSS_92 (power), P13 VSS_93 (power), P14 VSS_94 (power), P15 VSS_95 (power), R7 VSS_102 (power), R14 VSS_103 (power), T7 VSS_104 (power), U17 VSS_105 (power), Y1 VSS_106 (power)

## RTL8189FTV-VC-CG
designator U?
IEEE 802.11 b/g/n 2.4GHz 1T1R SDIO LGA Module; Number: 1; value: RTL8189FTV-VC-CG; PCB DECAL: RTL8189FTV; Manufacturer_PN: RTL8189FTV-VC-CG
footprint RTL8189FTV
pins: 1 GND, 2 RF, 3 GND, 4 NC, 5 NC, 6 NC, 7 NC, 8 NC, 9 VBAT, 10 NC, 11 NC, 12 WL_REG_ON, 13 WL_HOST_WAKE, 14 SDIO_DATA_2, 15 SDIO_DATA_3, 16 SDIO_DATA_CMD, 17 SDIO_DATA_CLK, 18 SDIO_DATA_D0, 19 SDIO_DATA_D1, 20 GND, 21 NC, 22 VDIO, 23 NC, 24 LPO, 25 NC, 26 NC, 27 NC, 28 NC, 29 NC, 30 TCXO_IN, 31 GND, 32 NC, 33 GND, 34 NC, 35 NC, 36 GND, 37 NC, 38 NC, 39 NC, 40 NC, 41 GND, 42 NC, 43 NC, 44 NC, 45 PAD

## SMTSO
designator TP?  (value not drawn)
焊接螺母M3,高度10mm；; Created_by: JJJ; Priority: A; RK_PN: SMTSO30100CTJ; PCB DECAL: PAD_10; Source_Path: Z:\RK_STANDARD_LIBRARY\CADENCE_CIS\RK_DISCRETE.OLB; Value: SMTSO30100CTJ; Option: DNP; Number: 1; Part_Type: SMTSO
footprint PAD_10
pins: 1

## TP
designator TP?  (value not drawn)
PCB DECAL: PAD_10; reserve: DEPOP; Source_Path: Z:\CAPTURE_CIS\REFERENCE\SYMBOL\TP.OLB; Option: DNP
footprint PAD_10
pins: 1